# Altium schematic symbol library RES 3296.SchLib: 1 symbol
Pins are listed as number, name and electrical type; pins without a type are passive.

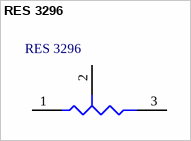
[diagram p0: symbol RES 3296]

## RES 3296
designator RES 3296  (value not drawn)
footprint RES 3296
pins: 1 A, 2 TAP, 3 B